# EAGLE library part TB67H420FTG (library FA3D_lib)
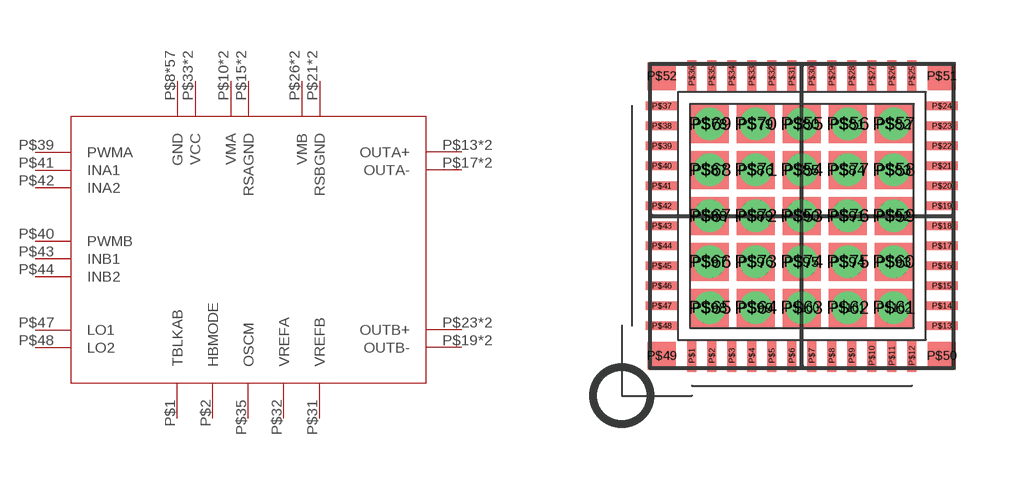
[diagram p19: symbol with the pads of 48-VFQFNEXPOSEDPAD; footprint 48-VFQFNEXPOSEDPAD]

Designator prefix -

## TB67H420FTG  [48-VFQFNEXPOSEDPAD]
P$1  TBLKAB
P$2  HBMODE
P$8  GND
P$10  VMA
P$11  VMA
P$13  OUTA+
P$14  OUTA+
P$15  RSAGND
P$16  RSAGND
P$17  OUTA-
P$18  OUTA-
P$19  OUTB-
P$20  OUTB-
P$21  RSBGND
P$22  RSBGND
P$23  OUTB+
P$24  OUTB+
P$26  VMB
P$27  VMB
P$29  GND
P$30  GND
P$31  VREFB
P$32  VREFA
P$33  VCC
P$34  VCC
P$35  OSCM
P$39  PWMA
P$40  PWMB
P$41  INA1
P$42  INA2
P$43  INB1
P$44  INB2
P$47  LO1
P$48  LO2
P$49  GND
P$50  GND
P$51  GND
P$52  GND
P$53  GND
P$54  GND
P$55  GND
P$56  GND
P$57  GND
P$58  GND
P$59  GND
P$60  GND
P$61  GND
P$62  GND
P$63  GND
P$64  GND
P$65  GND
P$66  GND
P$67  GND
P$68  GND
P$69  GND
P$70  GND
P$71  GND
P$72  GND
P$73  GND
P$74  GND
P$75  GND
P$76  GND
P$77  GND
P$78  GND
P$79  GND
P$80  GND
P$81  GND
P$82  GND
P$83  GND
P$84  GND
P$85  GND
P$86  GND
P$87  GND
P$88  GND
P$89  GND
P$90  GND
P$91  GND
P$92  GND
P$93  GND
P$94  GND
P$95  GND
P$96  GND
P$97  GND
P$98  GND
P$99  GND
P$100  GND
P$101  GND
P$102  GND

## Footprint 48-VFQFNEXPOSEDPAD (pad centres in mm)
smd 0.22 x 0.8: P$1 -2.75,-3.5; P$2 -2.25,-3.5; P$3 -1.75,-3.5; P$4 -1.25,-3.5; P$5 -0.75,-3.5; P$6 -0.25,-3.5; P$7 0.25,-3.5; P$8 0.75,-3.5; P$9 1.25,-3.5; P$10 1.75,-3.5; P$11 2.25,-3.5; P$12 2.75,-3.5; P$25 2.75,3.5; P$26 2.25,3.5; P$27 1.75,3.5; P$28 1.25,3.5; P$29 0.75,3.5; P$30 0.25,3.5; P$31 -0.25,3.5; P$32 -0.75,3.5; P$33 -1.25,3.5; P$34 -1.75,3.5; P$35 -2.25,3.5; P$36 -2.75,3.5
smd 0.8 x 0.22: P$13 3.5,-2.75; P$14 3.5,-2.25; P$15 3.5,-1.75; P$16 3.5,-1.25; P$17 3.5,-0.75; P$18 3.5,-0.25; P$19 3.5,0.25; P$20 3.5,0.75; P$21 3.5,1.25; P$22 3.5,1.75; P$23 3.5,2.25; P$24 3.5,2.75; P$37 -3.5,2.75; P$38 -3.5,2.25; P$39 -3.5,1.75; P$40 -3.5,1.25; P$41 -3.5,0.75; P$42 -3.5,0.25; P$43 -3.5,-0.25; P$44 -3.5,-0.75; P$45 -3.5,-1.25; P$46 -3.5,-1.75; P$47 -3.5,-2.25; P$48 -3.5,-2.75
smd 0.7 x 0.7: P$49 -3.5,-3.5; P$50 3.5,-3.5; P$51 3.5,3.5; P$52 -3.5,3.5
smd 0.95 x 0.95: P$53 0,0; P$54 0,1.15; P$55 0,2.3; P$56 1.15,2.3; P$57 2.3,2.3; P$58 2.3,1.15; P$59 2.3,0; P$60 2.3,-1.15; P$61 2.3,-2.3; P$62 1.15,-2.3; P$63 0,-2.3; P$64 -1.15,-2.3; P$65 -2.3,-2.3; P$66 -2.3,-1.15; P$67 -2.3,0; P$68 -2.3,1.15; P$69 -2.3,2.3; P$70 -1.15,2.3; P$71 -1.15,1.15; P$72 -1.15,0; P$73 -1.15,-1.15; P$74 0,-1.15; P$75 1.15,-1.15; P$76 1.15,0; P$77 1.15,1.15
drill 0.3: P$78 -2.3,2.3; P$79 -1.15,2.3; P$80 0,2.3; P$81 1.15,2.3; P$82 2.3,2.3; P$83 2.3,1.15; P$84 1.15,1.15; P$85 0,1.15; P$86 -1.15,1.15; P$87 -2.3,1.15; P$88 -2.3,0; P$89 -1.15,0; P$90 0,0; P$91 1.15,0; P$92 2.3,0; P$93 2.3,-1.15; P$94 1.15,-1.15; P$95 0,-1.15; P$96 -1.15,-1.15; P$97 -2.3,-1.15; P$98 -2.3,-2.3; P$99 -1.15,-2.3; P$100 0,-2.3; P$101 1.15,-2.3; P$102 2.3,-2.3